# EAGLE library part RFM69HW (library HopeRF-RFMxx)
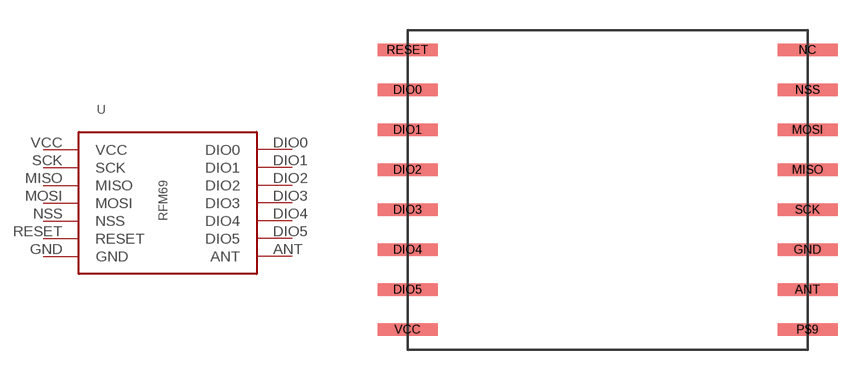
[diagram p1: symbol with the pads of RFM69_PADS; footprint RFM69_PADS]

Designator prefix -

## RFM69HW  [RFM69_PADS]
ANT  ANT
DIO0  DIO0
DIO1  DIO1
DIO2  DIO2
DIO3  DIO3
DIO4  DIO4
DIO5  DIO5
GND  GND
MISO  MISO
MOSI  MOSI
NSS  NSS
RESET  RESET
SCK  SCK
VCC  VCC

## Footprint RFM69_PADS (pad centres in mm)
smd 3 x 0.635: ANT 10,-4; DIO0 -10,6; DIO1 -10,4; DIO2 -10,2; DIO3 -10,0; DIO4 -10,-2; DIO5 -10,-4; GND 10,-2; MISO 10,2; MOSI 10,4; NC 10,8; NSS 10,6; P$9 10,-6; RESET -10,8; SCK 10,0; VCC -10,-6